# Altium schematic symbol library 2PIN_PWR_SUPPLY.SchLib: 1 symbol
Pins are listed as number, name and electrical type; pins without a type are passive.

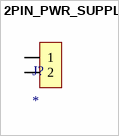
[diagram p0: symbol 2PIN_PWR_SUPPLY]

## 2PIN_PWR_SUPPLY
designator J?
Number of Positions: 2; Mounting Type: Through Hole
footprint 2PIN_JST_CONNECTOR
pins: 1 (io), 2 (io)